# EAGLE library part PAM8320 (library MyComponents)
PAM8320 20W Mono Class D Audio Amplifier
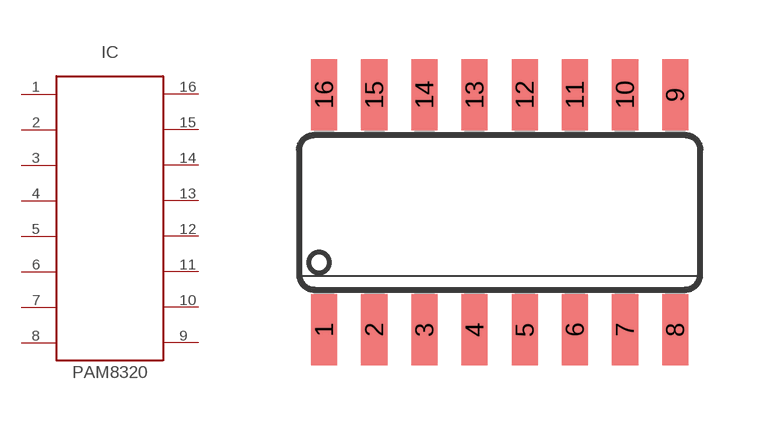
[diagram p21: symbol with the pads of SO16; footprint SO16]

Designator prefix IC

## PAM8320  [SO16]
1  P$1
2  P$2
3  P$3
4  P$4
5  P$5
6  P$6
7  P$7
8  P$8
9  P$9
10  P$10
11  P$11
12  P$12
13  P$13
14  P$14
15  P$15
16  P$16

## Footprint SO16 (pad centres in mm)
Small Outline package 150 mil
smd 0.66 x 1.8: 1 -4.445,-2.973; 2 -3.175,-2.973; 3 -1.905,-2.973; 4 -0.635,-2.973; 5 0.635,-2.973; 6 1.905,-2.973; 7 3.175,-2.973; 8 4.445,-2.973; 9 4.445,2.973; 10 3.175,2.973; 11 1.905,2.973; 12 0.635,2.973; 13 -0.635,2.973; 14 -1.905,2.973; 15 -3.175,2.973; 16 -4.445,2.973